# Altium footprint library WEST_PCB_Library.PcbLib: 19 footprints (part 2 of 2)
Each footprint in its own frame and in the unit in brackets; x right, y up, seen from the top. Pads: shape width x height; smd on the part's side, far side on the other; paste and mask are expansions set on the pad; w line width, h text height; cw(c..) or ccw(c..) is an arc to the next point about the centre after c.
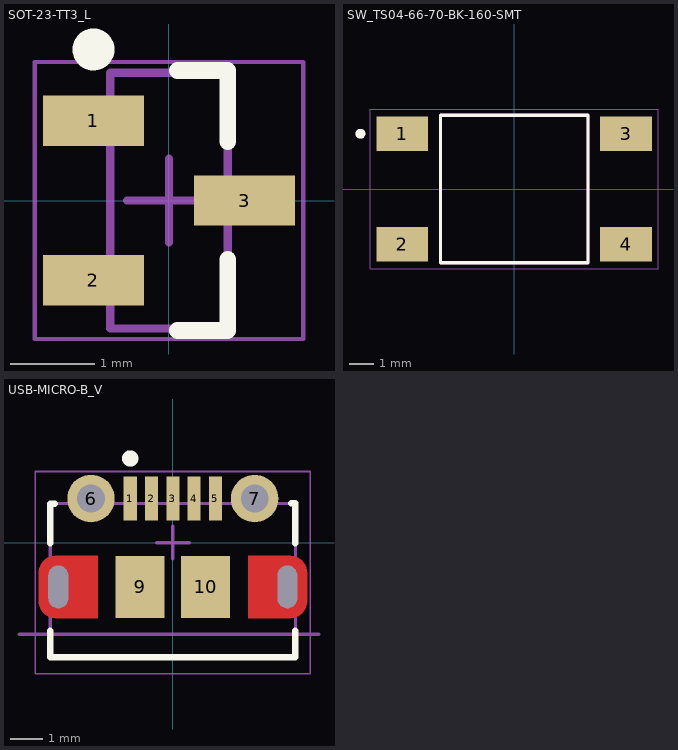
[diagram p1: the footprints below, top view; thin cyan lines are the x and y axes]

## SOT-23-TT3_L [mm] "SOT23, 3-Leads, Body 2.9x1.3mm, Pitch 0.95mm, Lead Span 2.4mm, IPC High Density"
height 1.12
pads (3):
  rect 1.2x0.6 smd: 1(-0.9,0.95) 2(-0.9,-0.95) 3(0.9,0)
Top Overlay:
  circle w0.25: c-0.9,1.8 r0.125
  lines w0.2: 0.1,-1.55 0.7,-1.55 0.7,-0.7 ; 0.1,1.55 0.7,1.55 0.7,0.7
Top 3D Body:
  lines w0.1: -0.7,-1.525 -0.7,1.525 0.7,1.525 0.7,-1.525 -0.7,-1.525
Top Courtyard:
  lines w0.05: -1.6,-1.65 -1.6,1.65 1.6,1.65 1.6,-1.65 -1.6,-1.65
  lines w0.1: -0.5,0 0.5,0 ; 0,-0.5 0,0.5
3D body: height 1.12, standoff 0.01, extent -0.7,-1.525 0.7,1.525

## SW_TS04-66-70-BK-160-SMT [mm]
pads (4):
  rect 2.1x1.4 smd: 1(-4.55,2.25) 2(-4.55,-2.25) 3(4.55,2.25) 4(4.55,-2.25)
Top Overlay:
  circle w0.2: c-6.25,2.25 r0.1
  lines w0.127: -3,-3 3,-3 3,3 -3,3 -3,-3
Top 3D Body:
  circle w0.2: c-6.25,2.25 r0.1
  lines w0.127: -3,-3 3,-3 3,3 -3,3 -3,-3
Top Courtyard:
  lines w0.05: -5.85,-3.25 5.85,-3.25 5.85,3.25 -5.85,3.25 -5.85,-3.25
3D body "CUI_DEVICES_TS04-66-70-BK-160-SMT.step": height 7, standoff -0.1, extent -5.127,-3 4.873,3

## USB-MICRO-B_V [mm] "USB, MICRO B, Body 7.491x4.695 mm, Pitch 0.65 mm"
height 2.673
pads (11):
  rect 0.4x1.35 smd: 1(-1.3,1.35) 2(-0.65,1.35) 3(0,1.35) 4(0.65,1.35) 5(1.3,1.35)
  round 1.45 hole 0.85: 6(-2.5,1.35) 7(2.5,1.35)
  rrect50% 0x0 hole 0.6 slot 1.3 at 90 deg: 8(-3.5,-1.35) 11(3.5,-1.35)
  rect 1.5x1.9 smd: 9(-1,-1.35) 10(1,-1.35)
Top Layer:
  circle w0.5: c-3.6,-1.8 r0.25
  circle w0.5: c-3.6,-0.9 r0.25
  circle w0.5: c3.6,-1.8 r0.25
  circle w0.5: c3.6,-0.9 r0.25
  region: -3.6,-1.8 -3.6,-0.9 -4.1,-0.9 -4.1,-1.8
  region: 3.6,-0.9 3.6,-1.8 4.1,-1.8 4.1,-0.9
  region: 2.3,-0.4 2.3,-2.3 3.6,-2.3 3.6,-0.4
  region: -2.3,-2.3 -2.3,-0.4 -3.6,-0.4 -3.6,-2.3
Top Overlay:
  circle w0.25: c-1.3,2.575 r0.125
  lines w0.2: -3.745,-2.688 -3.745,-3.5 3.745,-3.5 3.745,-2.688 ; -3.745,-0.012 -3.745,1.195 -3.614,1.195 ; 3.615,1.2 3.745,1.2 3.745,-0.012
Mechanical 1:
  lines w0.1: -4.7,-2.8 4.465,-2.8
  text "PCB EDGE" at -7.2,-2.9 h0.3
Top 3D Body:
  lines w0.1: -3.75,1.2 3.745,1.2 3.745,-3.5 -3.745,-3.5 -3.745,1.195
Top Courtyard:
  lines w0.05: -4.2,-4 4.2,-4 4.2,2.175 -4.2,2.175 -4.2,-4
  lines w0.1: -0.5,0 0.5,0 ; 0,-0.5 0,0.5
3D body "1050170001.stp": height 2.67, standoff -0.63, extent -4.1,-3.9 4.1,1.5